# Altium footprint library vod.PcbLib: 41 footprints (part 3 of 3)
Each footprint in its own frame and in the unit in brackets; x right, y up, seen from the top. Pads: shape width x height; smd on the part's side, far side on the other; paste and mask are expansions set on the pad; w line width, h text height; cw(c..) or ccw(c..) is an arc to the next point about the centre after c.
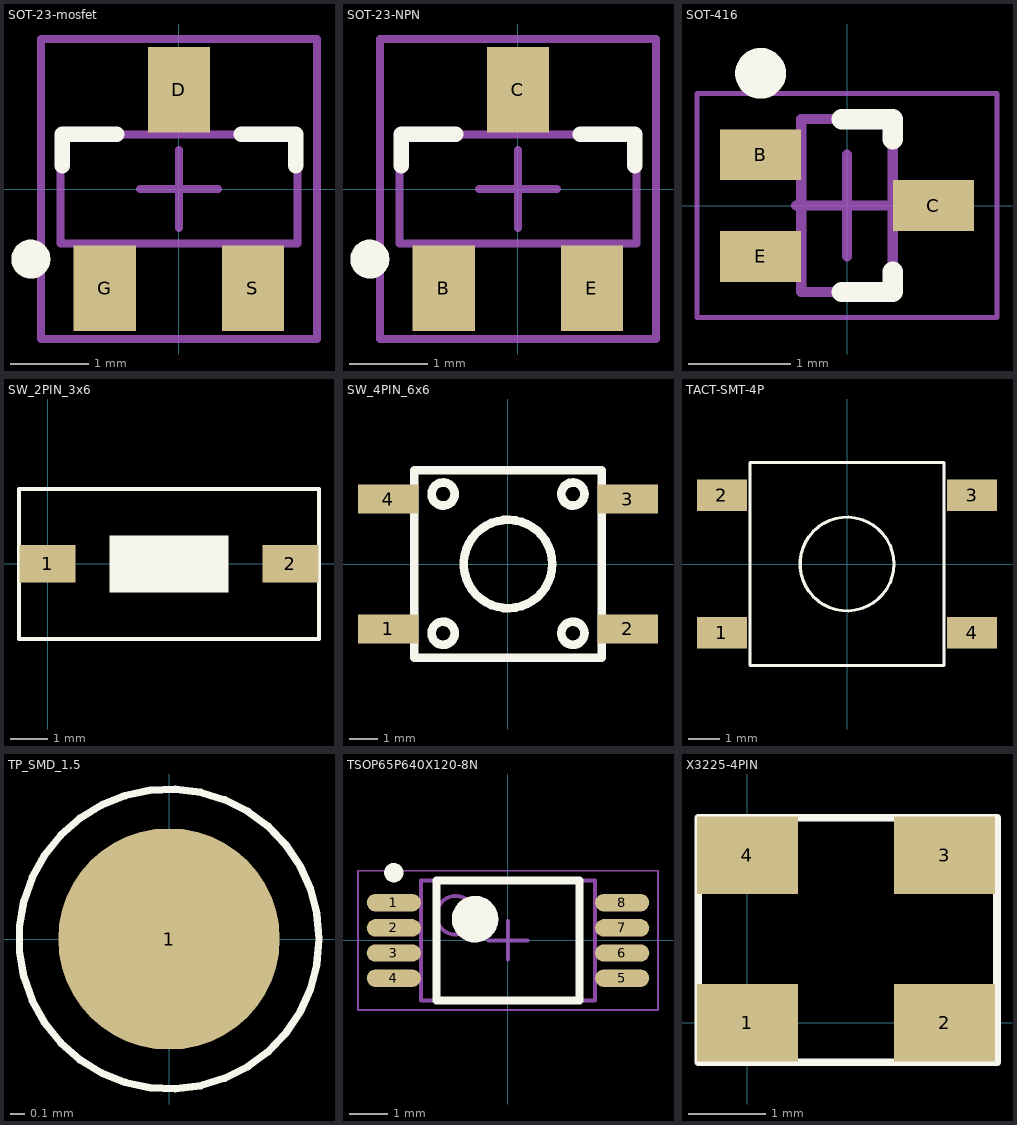
[diagram p2: the footprints below, top view; thin cyan lines are the x and y axes]

## SOT-23-mosfet [mm] "SOT-23, 3-Leads, Body 3,0x2,6mm (max), Pitch 0,95mm, IPC Medium Density"
height 1.1
pads (3):
  rect 0.8x1.1 smd: D(0,1.275) G(-0.95,-1.275) S(0.95,-1.275)
Top Overlay:
  circle w0.25: c-1.9,-0.9 r0.125
  lines w0.2: -1.5,0.3 -1.5,0.7 -0.8,0.7 ; 0.8,0.7 1.5,0.7 1.5,0.3
Mechanical 13:
  lines w0.1: -1.52,-0.7 1.52,-0.7 1.52,0.7 -1.52,0.7 -1.52,-0.7
Mechanical 15:
  lines w0.1: -0.5,0 0.5,0 ; 0,-0.5 0,0.5 ; -1.77,-1.925 1.77,-1.925 1.77,1.925 -1.77,1.925 -1.77,-1.925
3D body: height 0.98, standoff -0.01, extent -1.448,-1.21 1.448,1.21

## SOT-23-NPN [mm]
pads (3):
  rect 0.8x1.1 smd: B(-0.95,-1.275) C(0,1.275) E(0.95,-1.275)
Top Overlay:
  circle w0.25: c-1.9,-0.9 r0.125
  lines w0.2: -1.5,0.3 -1.5,0.7 -0.8,0.7 ; 0.8,0.7 1.5,0.7 1.5,0.3
Mechanical 13:
  lines w0.1: -1.52,-0.7 1.52,-0.7 1.52,0.7 -1.52,0.7 -1.52,-0.7
Mechanical 15:
  lines w0.1: -0.5,0 0.5,0 ; 0,-0.5 0,0.5 ; -1.77,-1.925 1.77,-1.925 1.77,1.925 -1.77,1.925 -1.77,-1.925
3D body: height 0.98, standoff -0.01, extent -1.448,-1.21 1.448,1.21

## SOT-416 [mm] "SOT-416, 3-Leads, Body 1.60x1.60mm, Pitch 0.50mm, IPC Medium Density"
height 0.7
pads (3):
  rect 0.8x0.5 smd: B(-0.85,0.5) C(0.85,0) E(-0.85,-0.5)
Top Overlay:
  circle w0.25: c-0.85,1.3 r0.125
  lines w0.2: -0.05,-0.85 0.45,-0.85 0.45,-0.65 ; -0.05,0.85 0.45,0.85 0.45,0.65
Mechanical 13:
  lines w0.1: -0.45,-0.85 0.45,-0.85 0.45,0.85 -0.45,0.85 -0.45,-0.85
Mechanical 15:
  lines w0.05: -1.475,-1.1 1.475,-1.1 1.475,1.1 -1.475,1.1 -1.475,-1.1
  lines w0.1: -0.5,0 0.5,0 ; 0,-0.5 0,0.5
3D body: height 0.75, standoff 0, extent -0.9,-0.8 0.9,0.8

## SW_2PIN_3x6 [mm]
pads (2):
  rect 1.5x1 smd: 1(0,0) 2(6.477,0)
Top Overlay:
  rectangle: 1.651,-0.762 4.826,0.762
  lines w0.1: -0.762,-2 7.238,-2 7.238,2 -0.762,2 -0.762,-2

## SW_4PIN_6x6 [mm]
pads (4):
  rect 2.1x1 smd: 1(-4.15,-2.25) 2(4.15,-2.25) 3(4.15,2.25) 4(-4.15,2.25)
Top Overlay:
  circle w0.3: c2.25,-2.4 r0.4
  circle w0.3: c0,0 r1.532
  circle w0.3: c-2.25,-2.4 r0.4
  circle w0.3: c2.25,2.425 r0.4
  circle w0.3: c-2.25,2.425 r0.4
  lines w0.3: -3.25,-3.25 3.25,-3.25 3.25,3.25 -3.25,3.25 -3.25,-3.25
3D body: height 5, standoff 4, extent -1.651,-1.651 1.651,1.651
3D body: height 4.3, standoff 0, extent -4.5,-3 4.5,3

## TACT-SMT-4P [mm]
pads (4):
  rect 1.6x1 smd: 1(-4,-2.2) 2(-4,2.2) 3(4,2.2) 4(4,-2.2)
Top Overlay:
  circle w0.1: c0,0 r1.5
  lines w0.1: -3.1,-3.25 3.1,-3.25 ; -3.1,-3.25 -3.1,3.25 ; -3.1,-3.25 3.1,-3.25 ; -3.1,-3.25 -3.1,3.25 ; -3.1,3.25 3.1,3.25 ; -3.1,3.25 3.1,3.25 ; 3.1,-3.25 3.1,3.25 ; 3.1,-3.25 3.1,3.25
3D body: height 5, standoff 0, extent -4.5,-3 4.5,3

## TP_SMD_1.5 [mm] "SMD TP, 1.5mm diameter"
height 3.81
pads (1):
  round 1.5 smd: 1(0,0)
Top Overlay:
  circle w0.05: c0,0 r1.016

## TSOP65P640X120-8N [mm] "TSOP, 8-Leads, Body 3.00x4.40mm, Pitch 0.65mm, IPC Medium Density"
height 1.2
pads (8):
  oval 1.4x0.45 smd: 1(-2.95,0.975) 2(-2.95,0.325) 3(-2.95,-0.325) 4(-2.95,-0.975) 5(2.95,-0.975) 6(2.95,-0.325) 7(2.95,0.325) 8(2.95,0.975)
Top Overlay:
  circle w0.25: c-2.95,1.75 r0.125
  circle w0.6: c-0.85,0.55 r0.3
  lines w0.2: -1.85,-1.55 -1.85,1.55 1.85,1.55 1.85,-1.55 -1.85,-1.55
Mechanical 13:
  circle w0.1: c-1.35,0.65 r0.5
  lines w0.1: -2.25,-1.55 -2.25,1.55 2.25,1.55 2.25,-1.55 -2.25,-1.55
Mechanical 15:
  lines w0.05: -3.875,-1.8 -3.875,1.8 3.875,1.8 3.875,-1.8 -3.875,-1.8
  lines w0.1: -0.5,0 0.5,0 ; 0,-0.5 0,0.5
3D body: height 1.2, standoff 0, extent -3.2,-1.55 3.2,1.55

## X3225-4PIN [mm]
pads (4):
  rect 1.3x1 smd: 1(0,0) 2(2.54,0) 3(2.54,2.159) 4(0,2.159)
Top Overlay:
  lines w0.1: -0.635,-0.508 -0.635,2.642 3.215,2.642 3.215,-0.508 -0.635,-0.508